# Altium schematic symbol library WH2004.SchLib: 1 symbol
Pins are listed as number, name and electrical type; pins without a type are passive.

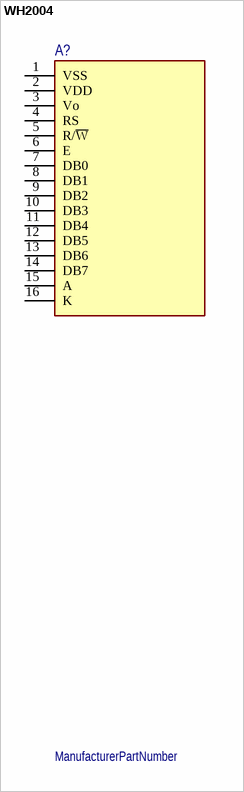
[diagram p0: symbol WH2004]

## WH2004
designator A?  (value not drawn)
ManufacturerPartNumber: ManufacturerPartNumber
pins: 1 VSS, 2 VDD, 3 Vo, 4 RS, 5 R/~{W}, 6 E, 7 DB0, 8 DB1, 9 DB2, 10 DB3, 11 DB4, 12 DB5, 13 DB6, 14 DB7, 15 A, 16 K